# Altium integrated library con-deutsch_2.IntLib: 27 symbols (part 1 of 2)
Pins are listed as number, name and electrical type; pins without a type are passive.

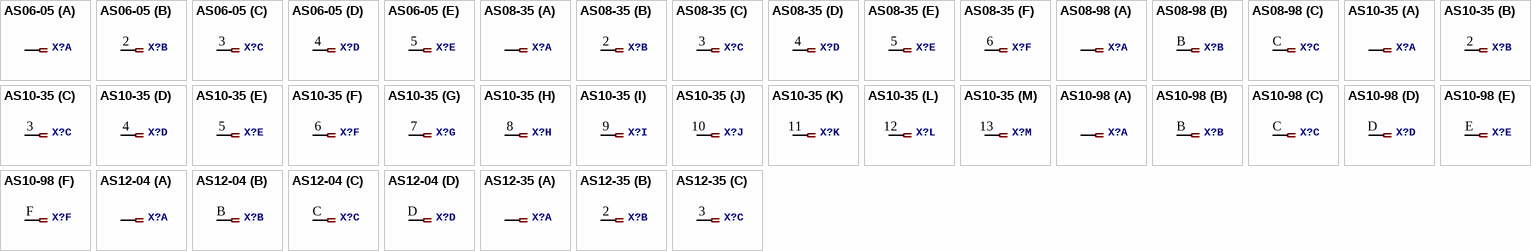
[diagram p0: symbols AS06-05 to AS12-35]

## AS06-05
designator X?, comment DEUTSCH Connector  (value not drawn)
GateName_1: /1; SymbolName_1: PINF_VAL; GateName_2: /2; SymbolName_2: ASPINF; GateName_3: /3; GateName_4: /4; GateName_5: /5; DeviceSetName: AS06-05; SymbolName_3: ASPINF; SymbolName_4: ASPINF; SymbolName_5: ASPINF; LibraryName: con-deutsch_2; Package: AS06-05
footprint AS06-05
part A pins: 1
part B pins: 2 1
part C pins: 3 1
part D pins: 4 1
part E pins: 5 1

## AS08-35
designator X?, comment DEUTSCH Connector  (value not drawn)
GateName_1: /1; SymbolName_1: PINF_VAL; GateName_2: /2; SymbolName_2: ASPINF; GateName_3: /3; GateName_4: /4; GateName_5: /5; GateName_6: /6; DeviceSetName: AS08-35; SymbolName_3: ASPINF; SymbolName_4: ASPINF; SymbolName_5: ASPINF; SymbolName_6: ASPINF; LibraryName: con-deutsch_2; Package: AS08-35
footprint AS08-35
part A pins: 1
part B pins: 2 1
part C pins: 3 1
part D pins: 4 1
part E pins: 5 1
part F pins: 6 1

## AS08-98
designator X?, comment DEUTSCH Connector  (value not drawn)
GateName_1: /A; SymbolName_1: PINF_VAL; GateName_2: /B; SymbolName_2: ASPINF; GateName_3: /C; DeviceSetName: AS08-98; SymbolName_3: ASPINF; LibraryName: con-deutsch_2; Package: AS08-98
footprint AS08-98
part A pins: A 1
part B pins: B 1
part C pins: C 1

## AS10-35
designator X?, comment DEUTSCH Connector  (value not drawn)
GateName_1: /1; SymbolName_1: PINF_VAL; GateName_2: /2; SymbolName_2: ASPINF; GateName_3: /3; GateName_4: /4; GateName_5: /5; GateName_6: /6; GateName_7: /7; GateName_8: /8; GateName_9: /9; GateName_10: /10; GateName_11: /11; GateName_12: /12; GateName_13: /13; DeviceSetName: AS10-35; SymbolName_3: ASPINF; SymbolName_4: ASPINF; SymbolName_5: ASPINF; SymbolName_6: ASPINF; SymbolName_7: ASPINF; SymbolName_8: ASPINF; SymbolName_9: ASPINF; SymbolName_10: ASPINF; SymbolName_11: ASPINF; SymbolName_12: ASPINF; SymbolName_13: ASPINF; LibraryName: con-deutsch_2; Package: AS10-35
footprint AS10-35
part A pins: 1
part B pins: 2 1
part C pins: 3 1
part D pins: 4 1
part E pins: 5 1
part F pins: 6 1
part G pins: 7 1
part H pins: 8 1
part I pins: 9 1
part J pins: 10 1
part K pins: 11 1
part L pins: 12 1
part M pins: 13 1

## AS10-98
designator X?, comment DEUTSCH Connector  (value not drawn)
GateName_1: /A; SymbolName_1: PINF_VAL; GateName_2: /B; SymbolName_2: ASPINF; GateName_3: /C; GateName_4: /D; GateName_5: /E; GateName_6: /F; DeviceSetName: AS10-98; SymbolName_3: ASPINF; SymbolName_4: ASPINF; SymbolName_5: ASPINF; SymbolName_6: ASPINF; LibraryName: con-deutsch_2; Package: AS10-98
footprint AS10-98
part A pins: A 1
part B pins: B 1
part C pins: C 1
part D pins: D 1
part E pins: E 1
part F pins: F 1

## AS12-04
designator X?, comment DEUTSCH Connector  (value not drawn)
GateName_1: /A; SymbolName_1: PINF_VAL; GateName_2: /B; SymbolName_2: ASPINF; GateName_3: /C; GateName_4: /D; DeviceSetName: AS12-04; SymbolName_3: ASPINF; SymbolName_4: ASPINF; LibraryName: con-deutsch_2; Package: AS12-04
footprint AS12-04
part A pins: A 1
part B pins: B 1
part C pins: C 1
part D pins: D 1

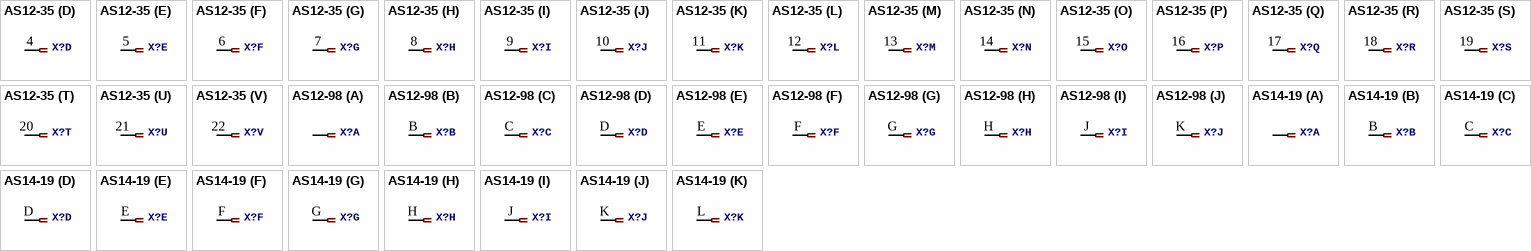
[diagram p1: symbols AS12-35 to AS14-19]

## AS12-35
designator X?, comment DEUTSCH Connector  (value not drawn)
GateName_1: /1; SymbolName_1: PINF_VAL; GateName_2: /2; SymbolName_2: ASPINF; GateName_3: /3; GateName_4: /4; GateName_5: /5; GateName_6: /6; GateName_7: /7; GateName_8: /8; GateName_9: /9; GateName_10: /10; GateName_11: /11; GateName_12: /12; GateName_13: /13; GateName_14: /14; GateName_15: /15; GateName_16: /16; GateName_17: /17; GateName_18: /18; GateName_19: /19; GateName_20: /20; GateName_21: /21; GateName_22: /22; DeviceSetName: AS12-35; SymbolName_3: ASPINF; SymbolName_4: ASPINF; SymbolName_5: ASPINF; SymbolName_6: ASPINF; SymbolName_7: ASPINF; SymbolName_8: ASPINF; SymbolName_9: ASPINF; SymbolName_10: ASPINF; SymbolName_11: ASPINF; SymbolName_12: ASPINF; SymbolName_13: ASPINF; SymbolName_14: ASPINF; SymbolName_15: ASPINF; SymbolName_16: ASPINF; SymbolName_17: ASPINF; SymbolName_18: ASPINF; SymbolName_19: ASPINF; SymbolName_20: ASPINF; SymbolName_21: ASPINF; SymbolName_22: ASPINF; LibraryName: con-deutsch_2; Package: AS12-35
footprint AS12-35
part A pins: 1
part B pins: 2 1
part C pins: 3 1
part D pins: 4 1
part E pins: 5 1
part F pins: 6 1
part G pins: 7 1
part H pins: 8 1
part I pins: 9 1
part J pins: 10 1
part K pins: 11 1
part L pins: 12 1
part M pins: 13 1
part N pins: 14 1
part O pins: 15 1
part P pins: 16 1
part Q pins: 17 1
part R pins: 18 1
part S pins: 19 1
part T pins: 20 1
part U pins: 21 1
part V pins: 22 1

## AS12-98
designator X?, comment DEUTSCH Connector  (value not drawn)
GateName_1: /A; SymbolName_1: PINF_VAL; GateName_2: /B; SymbolName_2: ASPINF; GateName_3: /C; GateName_4: /D; GateName_5: /E; GateName_6: /F; GateName_7: /G; GateName_8: /H; GateName_9: /J; GateName_10: /K; DeviceSetName: AS12-98; SymbolName_3: ASPINF; SymbolName_4: ASPINF; SymbolName_5: ASPINF; SymbolName_6: ASPINF; SymbolName_7: ASPINF; SymbolName_8: ASPINF; SymbolName_9: ASPINF; SymbolName_10: ASPINF; LibraryName: con-deutsch_2; Package: AS12-98
footprint AS12-98
part A pins: A 1
part B pins: B 1
part C pins: C 1
part D pins: D 1
part E pins: E 1
part F pins: F 1
part G pins: G 1
part H pins: H 1
part I pins: J 1
part J pins: K 1

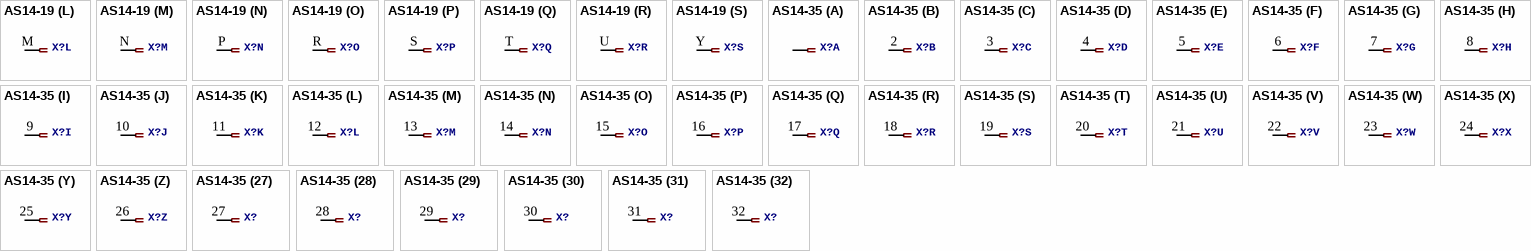
[diagram p2: symbols AS14-19 to AS14-35]

## AS14-19
designator X?, comment DEUTSCH Connector  (value not drawn)
GateName_1: /A; SymbolName_1: PINF_VAL; GateName_2: /B; SymbolName_2: ASPINF; GateName_3: /C; GateName_4: /D; GateName_5: /E; GateName_6: /F; GateName_7: /G; GateName_8: /H; GateName_9: /J; GateName_10: /K; GateName_11: /L; GateName_12: /M; GateName_13: /N; GateName_14: /P; GateName_15: /R; GateName_16: /S; GateName_17: /T; GateName_18: /U; GateName_19: /Y; DeviceSetName: AS14-19; SymbolName_3: ASPINF; SymbolName_4: ASPINF; SymbolName_5: ASPINF; SymbolName_6: ASPINF; SymbolName_7: ASPINF; SymbolName_8: ASPINF; SymbolName_9: ASPINF; SymbolName_10: ASPINF; SymbolName_11: ASPINF; SymbolName_12: ASPINF; SymbolName_13: ASPINF; SymbolName_14: ASPINF; SymbolName_15: ASPINF; SymbolName_16: ASPINF; SymbolName_17: ASPINF; SymbolName_18: ASPINF; SymbolName_19: ASPINF; LibraryName: con-deutsch_2; Package: AS14-19
footprint AS14-19
part A pins: A 1
part B pins: B 1
part C pins: C 1
part D pins: D 1
part E pins: E 1
part F pins: F 1
part G pins: G 1
part H pins: H 1
part I pins: J 1
part J pins: K 1
part K pins: L 1
part L pins: M 1
part M pins: N 1
part N pins: P 1
part O pins: R 1
part P pins: S 1
part Q pins: T 1
part R pins: U 1
part S pins: Y 1

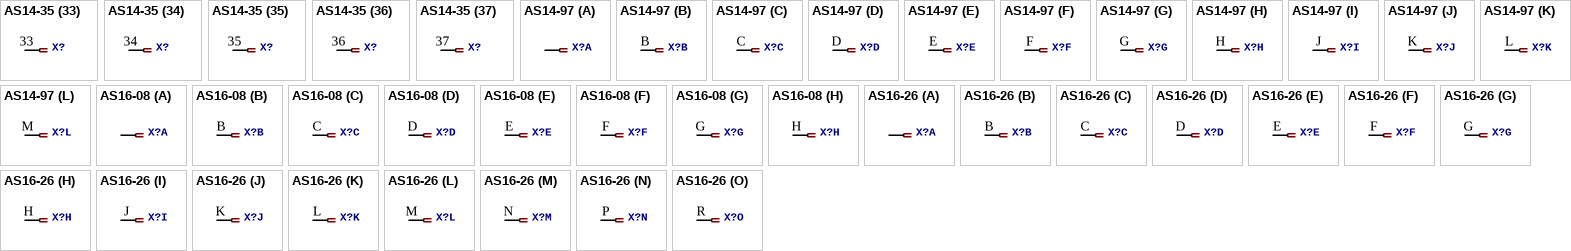
[diagram p3: symbols AS14-35 to AS16-26]

## AS14-35
designator X?, comment DEUTSCH Connector  (value not drawn)
GateName_1: /1; SymbolName_1: PINF_VAL; GateName_2: /2; SymbolName_2: ASPINF; GateName_3: /3; GateName_4: /4; GateName_5: /5; GateName_6: /6; GateName_7: /7; GateName_8: /8; GateName_9: /9; GateName_10: /10; GateName_11: /11; GateName_12: /12; GateName_13: /13; GateName_14: /14; GateName_15: /15; GateName_16: /16; GateName_17: /17; GateName_18: /18; GateName_19: /19; GateName_20: /20; GateName_21: /21; GateName_22: /22; GateName_23: /23; GateName_24: /24; GateName_25: /25; GateName_26: /26; GateName_27: /27; GateName_28: /28; GateName_29: /29; GateName_30: /30; GateName_31: /31; GateName_32: /32; GateName_33: /33; GateName_34: /34; GateName_35: /35; GateName_36: /36; GateName_37: /37; DeviceSetName: AS14-35; SymbolName_3: ASPINF; SymbolName_4: ASPINF; SymbolName_5: ASPINF; SymbolName_6: ASPINF; SymbolName_7: ASPINF; SymbolName_8: ASPINF; SymbolName_9: ASPINF; SymbolName_10: ASPINF; SymbolName_11: ASPINF; SymbolName_12: ASPINF; SymbolName_13: ASPINF; SymbolName_14: ASPINF; SymbolName_15: ASPINF; SymbolName_16: ASPINF; SymbolName_17: ASPINF; SymbolName_18: ASPINF; SymbolName_19: ASPINF; SymbolName_20: ASPINF; SymbolName_21: ASPINF; SymbolName_22: ASPINF; SymbolName_23: ASPINF; SymbolName_24: ASPINF; SymbolName_25: ASPINF; SymbolName_26: ASPINF; SymbolName_27: ASPINF; SymbolName_28: ASPINF; SymbolName_29: ASPINF; SymbolName_30: ASPINF; SymbolName_31: ASPINF; SymbolName_32: ASPINF; SymbolName_33: ASPINF; SymbolName_34: ASPINF; SymbolName_35: ASPINF; SymbolName_36: ASPINF; SymbolName_37: ASPINF; LibraryName: con-deutsch_2; Package: AS14-35
footprint AS14-35
part A pins: 1
part B pins: 2 1
part C pins: 3 1
part D pins: 4 1
part E pins: 5 1
part F pins: 6 1
part G pins: 7 1
part H pins: 8 1
part I pins: 9 1
part J pins: 10 1
part K pins: 11 1
part L pins: 12 1
part M pins: 13 1
part N pins: 14 1
part O pins: 15 1
part P pins: 16 1
part Q pins: 17 1
part R pins: 18 1
part S pins: 19 1
part T pins: 20 1
part U pins: 21 1
part V pins: 22 1
part W pins: 23 1
part X pins: 24 1
part Y pins: 25 1
part Z pins: 26 1
part 27 pins: 27 1
part 28 pins: 28 1
part 29 pins: 29 1
part 30 pins: 30 1
part 31 pins: 31 1
part 32 pins: 32 1
part 33 pins: 33 1
part 34 pins: 34 1
part 35 pins: 35 1
part 36 pins: 36 1
part 37 pins: 37 1

## AS14-97
designator X?, comment DEUTSCH Connector  (value not drawn)
GateName_1: /A; SymbolName_1: PINF_VAL; GateName_2: /B; SymbolName_2: ASPINF; GateName_3: /C; GateName_4: /D; GateName_5: /E; GateName_6: /F; GateName_7: /G; GateName_8: /H; GateName_9: /J; GateName_10: /K; GateName_11: /L; GateName_12: /M; DeviceSetName: AS14-97; SymbolName_3: ASPINF; SymbolName_4: ASPINF; SymbolName_5: ASPINF; SymbolName_6: ASPINF; SymbolName_7: ASPINF; SymbolName_8: ASPINF; SymbolName_9: ASPINF; SymbolName_10: ASPINF; SymbolName_11: ASPINF; SymbolName_12: ASPINF; LibraryName: con-deutsch_2; Package: AS14-97
footprint AS14-97
part A pins: A 1
part B pins: B 1
part C pins: C 1
part D pins: D 1
part E pins: E 1
part F pins: F 1
part G pins: G 1
part H pins: H 1
part I pins: J 1
part J pins: K 1
part K pins: L 1
part L pins: M 1

## AS16-08
designator X?, comment DEUTSCH Connector  (value not drawn)
GateName_1: /A; SymbolName_1: PINF_VAL; GateName_2: /B; SymbolName_2: ASPINF; GateName_3: /C; GateName_4: /D; GateName_5: /E; GateName_6: /F; GateName_7: /G; GateName_8: /H; DeviceSetName: AS16-08; SymbolName_3: ASPINF; SymbolName_4: ASPINF; SymbolName_5: ASPINF; SymbolName_6: ASPINF; SymbolName_7: ASPINF; SymbolName_8: ASPINF; LibraryName: con-deutsch_2; Package: AS16-08
footprint AS16-08
part A pins: A 1
part B pins: B 1
part C pins: C 1
part D pins: D 1
part E pins: E 1
part F pins: F 1
part G pins: G 1
part H pins: H 1

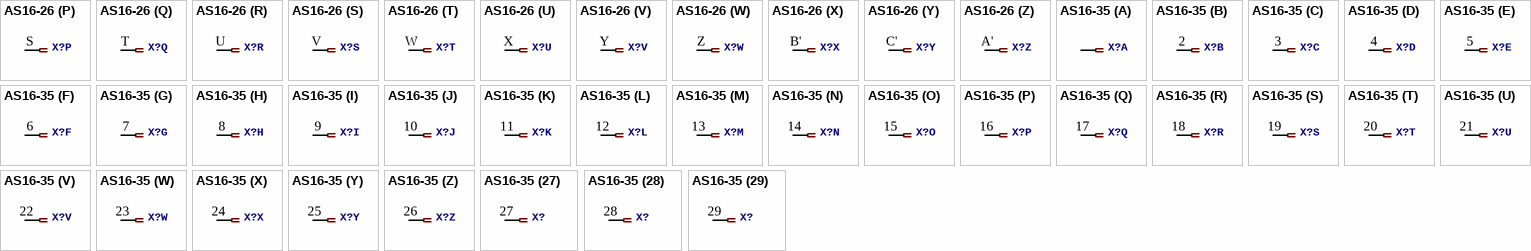
[diagram p4: symbols AS16-26 to AS16-35]

## AS16-26
designator X?, comment DEUTSCH Connector  (value not drawn)
GateName_1: /A; SymbolName_1: PINF_VAL; GateName_2: /B; SymbolName_2: ASPINF; GateName_3: /C; GateName_4: /D; GateName_5: /E; GateName_6: /F; GateName_7: /G; GateName_8: /H; GateName_9: /J; GateName_10: /K; GateName_11: /L; GateName_12: /M; GateName_13: /N; GateName_14: /P; GateName_15: /R; GateName_16: /S; GateName_17: /T; GateName_18: /U; GateName_19: /V; GateName_20: /W; GateName_21: /X; GateName_22: /Y; GateName_23: /Z; GateName_24: /B'; GateName_25: /C'; GateName_26: /A'; DeviceSetName: AS16-26; SymbolName_3: ASPINF; SymbolName_4: ASPINF; SymbolName_5: ASPINF; SymbolName_6: ASPINF; SymbolName_7: ASPINF; SymbolName_8: ASPINF; SymbolName_9: ASPINF; SymbolName_10: ASPINF; SymbolName_11: ASPINF; SymbolName_12: ASPINF; SymbolName_13: ASPINF; SymbolName_14: ASPINF; SymbolName_15: ASPINF; SymbolName_16: ASPINF; SymbolName_17: ASPINF; SymbolName_18: ASPINF; SymbolName_19: ASPINF; SymbolName_20: ASPINF; SymbolName_21: ASPINF; SymbolName_22: ASPINF; SymbolName_23: ASPINF; SymbolName_24: ASPINF; SymbolName_25: ASPINF; SymbolName_26: ASPINF; LibraryName: con-deutsch_2; Package: AS16-26
footprint AS16-26
part A pins: A 1
part B pins: B 1
part C pins: C 1
part D pins: D 1
part E pins: E 1
part F pins: F 1
part G pins: G 1
part H pins: H 1
part I pins: J 1
part J pins: K 1
part K pins: L 1
part L pins: M 1
part M pins: N 1
part N pins: P 1
part O pins: R 1
part P pins: S 1
part Q pins: T 1
part R pins: U 1
part S pins: V 1
part T pins: W 1
part U pins: X 1
part V pins: Y 1
part W pins: Z 1
part X pins: B' 1
part Y pins: C' 1
part Z pins: A' 1

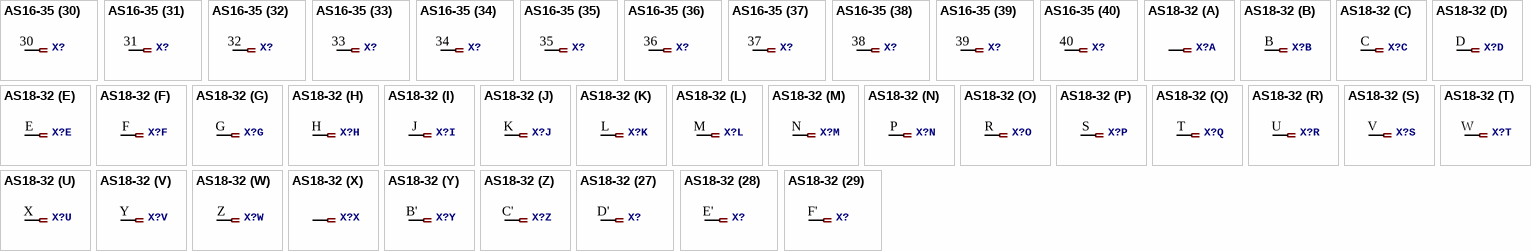
[diagram p5: symbols AS16-35 to AS18-32]

## AS16-35
designator X?, comment DEUTSCH Connector  (value not drawn)
GateName_1: /1; SymbolName_1: PINF_VAL; GateName_2: /2; SymbolName_2: ASPINF; GateName_3: /3; GateName_4: /4; GateName_5: /5; GateName_6: /6; GateName_7: /7; GateName_8: /8; GateName_9: /9; GateName_10: /10; GateName_11: /11; GateName_12: /12; GateName_13: /13; GateName_14: /14; GateName_15: /15; GateName_16: /16; GateName_17: /17; GateName_18: /18; GateName_19: /19; GateName_20: /20; GateName_21: /21; GateName_22: /22; GateName_23: /23; GateName_24: /24; GateName_25: /25; GateName_26: /26; GateName_27: /27; GateName_28: /28; GateName_29: /29; GateName_30: /30; GateName_31: /31; GateName_32: /32; GateName_33: /33; GateName_34: /34; GateName_35: /35; GateName_36: /36; GateName_37: /37; GateName_38: /38; GateName_39: /39; GateName_40: /40; GateName_41: /41; GateName_42: /42; GateName_43: /43; GateName_44: /44; GateName_45: /45; GateName_46: /46; GateName_47: /47; GateName_48: /48; GateName_49: /49; GateName_50: /50; GateName_51: /51; GateName_52: /52; GateName_53: /53; GateName_54: /54; GateName_55: /55; DeviceSetName: AS16-35; SymbolName_3: ASPINF; SymbolName_4: ASPINF; SymbolName_5: ASPINF; SymbolName_6: ASPINF; SymbolName_7: ASPINF; SymbolName_8: ASPINF; SymbolName_9: ASPINF; SymbolName_10: ASPINF; SymbolName_11: ASPINF; SymbolName_12: ASPINF; SymbolName_13: ASPINF; SymbolName_14: ASPINF; SymbolName_15: ASPINF; SymbolName_16: ASPINF; SymbolName_17: ASPINF; SymbolName_18: ASPINF; SymbolName_19: ASPINF; SymbolName_20: ASPINF; SymbolName_21: ASPINF; SymbolName_22: ASPINF; SymbolName_23: ASPINF; SymbolName_24: ASPINF; SymbolName_25: ASPINF; SymbolName_26: ASPINF; SymbolName_27: ASPINF; SymbolName_28: ASPINF; SymbolName_29: ASPINF; SymbolName_30: ASPINF; SymbolName_31: ASPINF; SymbolName_32: ASPINF; SymbolName_33: ASPINF; SymbolName_34: ASPINF; SymbolName_35: ASPINF; SymbolName_36: ASPINF; SymbolName_37: ASPINF; SymbolName_38: ASPINF; SymbolName_39: ASPINF; SymbolName_40: ASPINF; SymbolName_41: ASPINF; SymbolName_42: ASPINF; SymbolName_43: ASPINF; SymbolName_44: ASPINF; SymbolName_45: ASPINF; SymbolName_46: ASPINF; SymbolName_47: ASPINF; SymbolName_48: ASPINF; SymbolName_49: ASPINF; SymbolName_50: ASPINF; SymbolName_51: ASPINF; SymbolName_52: ASPINF; SymbolName_53: ASPINF; SymbolName_54: ASPINF; SymbolName_55: ASPINF; LibraryName: con-deutsch_2; Package: AS16-35
footprint AS16-35
part A pins: 1
part B pins: 2 1
part C pins: 3 1
part D pins: 4 1
part E pins: 5 1
part F pins: 6 1
part G pins: 7 1
part H pins: 8 1
part I pins: 9 1
part J pins: 10 1
part K pins: 11 1
part L pins: 12 1
part M pins: 13 1
part N pins: 14 1
part O pins: 15 1
part P pins: 16 1
part Q pins: 17 1
part R pins: 18 1
part S pins: 19 1
part T pins: 20 1
part U pins: 21 1
part V pins: 22 1
part W pins: 23 1
part X pins: 24 1
part Y pins: 25 1
part Z pins: 26 1
part 27 pins: 27 1
part 28 pins: 28 1
part 29 pins: 29 1
part 30 pins: 30 1
part 31 pins: 31 1
part 32 pins: 32 1
part 33 pins: 33 1
part 34 pins: 34 1
part 35 pins: 35 1
part 36 pins: 36 1
part 37 pins: 37 1
part 38 pins: 38 1
part 39 pins: 39 1
part 40 pins: 40 1
part 41 pins: 41 1
part 42 pins: 42 1
part 43 pins: 43 1
part 44 pins: 44 1
part 45 pins: 45 1
part 46 pins: 46 1
part 47 pins: 47 1
part 48 pins: 48 1
part 49 pins: 49 1
part 50 pins: 50 1
part 51 pins: 51 1
part 52 pins: 52 1
part 53 pins: 53 1
part 54 pins: 54 1
part 55 pins: 55 1

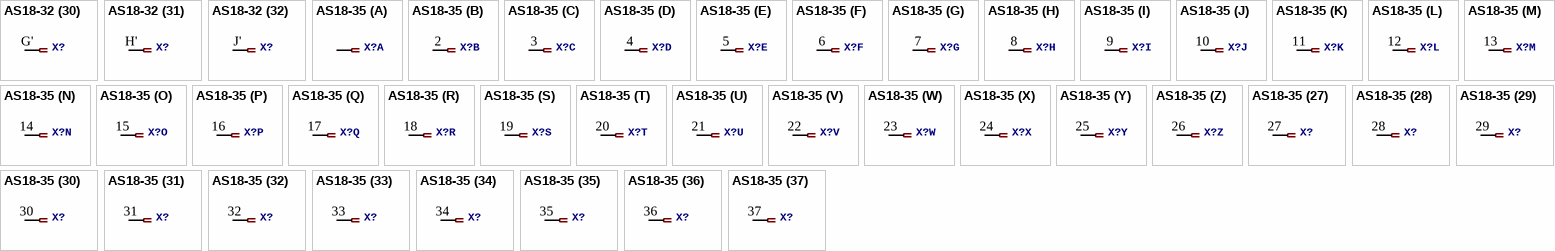
[diagram p6: symbols AS18-32 to AS18-35]

## AS18-32
designator X?, comment DEUTSCH Connector  (value not drawn)
GateName_1: /A; SymbolName_1: PINF_VAL; GateName_2: /B; SymbolName_2: ASPINF; GateName_3: /C; GateName_4: /D; GateName_5: /E; GateName_6: /F; GateName_7: /G; GateName_8: /H; GateName_9: /J; GateName_10: /K; GateName_11: /L; GateName_12: /M; GateName_13: /N; GateName_14: /P; GateName_15: /R; GateName_16: /S; GateName_17: /T; GateName_18: /U; GateName_19: /V; GateName_20: /W; GateName_21: /X; GateName_22: /Y; GateName_23: /Z; GateName_24: /A'; GateName_25: /B'; GateName_26: /C'; GateName_27: /D'; GateName_28: /E'; GateName_29: /F'; GateName_30: /G'; GateName_31: /H'; GateName_32: /J'; DeviceSetName: AS18-32; SymbolName_3: ASPINF; SymbolName_4: ASPINF; SymbolName_5: ASPINF; SymbolName_6: ASPINF; SymbolName_7: ASPINF; SymbolName_8: ASPINF; SymbolName_9: ASPINF; SymbolName_10: ASPINF; SymbolName_11: ASPINF; SymbolName_12: ASPINF; SymbolName_13: ASPINF; SymbolName_14: ASPINF; SymbolName_15: ASPINF; SymbolName_16: ASPINF; SymbolName_17: ASPINF; SymbolName_18: ASPINF; SymbolName_19: ASPINF; SymbolName_20: ASPINF; SymbolName_21: ASPINF; SymbolName_22: ASPINF; SymbolName_23: ASPINF; SymbolName_24: PINF_VAL; SymbolName_25: ASPINF; SymbolName_26: ASPINF; SymbolName_27: ASPINF; SymbolName_28: ASPINF; SymbolName_29: ASPINF; SymbolName_30: ASPINF; SymbolName_31: ASPINF; SymbolName_32: ASPINF; LibraryName: con-deutsch_2; Package: AS18-32
footprint AS18-32
part A pins: A 1
part B pins: B 1
part C pins: C 1
part D pins: D 1
part E pins: E 1
part F pins: F 1
part G pins: G 1
part H pins: H 1
part I pins: J 1
part J pins: K 1
part K pins: L 1
part L pins: M 1
part M pins: N 1
part N pins: P 1
part O pins: R 1
part P pins: S 1
part Q pins: T 1
part R pins: U 1
part S pins: V 1
part T pins: W 1
part U pins: X 1
part V pins: Y 1
part W pins: Z 1
part X pins: A' 1
part Y pins: B' 1
part Z pins: C' 1
part 27 pins: D' 1
part 28 pins: E' 1
part 29 pins: F' 1
part 30 pins: G' 1
part 31 pins: H' 1
part 32 pins: J' 1

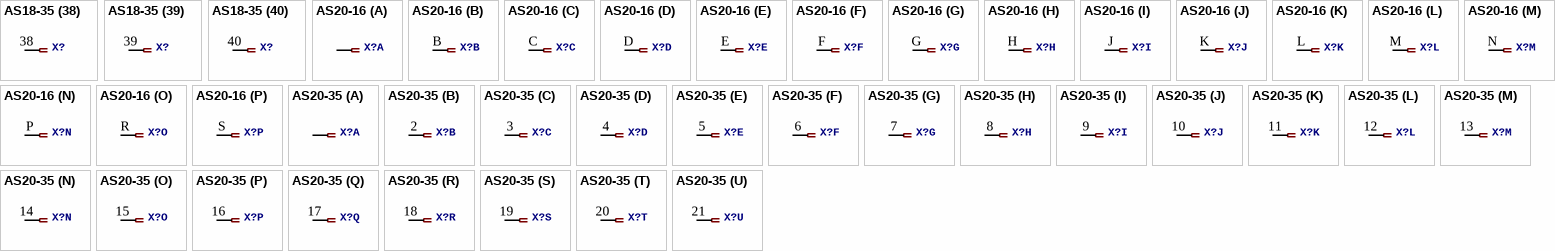
[diagram p7: symbols AS18-35 to AS20-35]

## AS18-35
designator X?, comment DEUTSCH Connector  (value not drawn)
GateName_1: /1; SymbolName_1: PINF_VAL; GateName_2: /2; SymbolName_2: ASPINF; GateName_3: /3; GateName_4: /4; GateName_5: /5; GateName_6: /6; GateName_7: /7; GateName_8: /8; GateName_9: /9; GateName_10: /10; GateName_11: /11; GateName_12: /12; GateName_13: /13; GateName_14: /14; GateName_15: /15; GateName_16: /16; GateName_17: /17; GateName_18: /18; GateName_19: /19; GateName_20: /20; GateName_21: /21; GateName_22: /22; GateName_23: /23; GateName_24: /24; GateName_25: /25; GateName_26: /26; GateName_27: /27; GateName_28: /28; GateName_29: /29; GateName_30: /30; GateName_31: /31; GateName_32: /32; GateName_33: /33; GateName_34: /34; GateName_35: /35; GateName_36: /36; GateName_37: /37; GateName_38: /38; GateName_39: /39; GateName_40: /40; GateName_41: /41; GateName_42: /42; GateName_43: /43; GateName_44: /44; GateName_45: /45; GateName_46: /46; GateName_47: /47; GateName_48: /48; GateName_49: /49; GateName_50: /50; GateName_51: /51; GateName_52: /52; GateName_53: /53; GateName_54: /54; GateName_55: /55; GateName_56: /56; GateName_57: /57; GateName_58: /58; GateName_59: /59; GateName_60: /60; GateName_61: /61; GateName_62: /62; GateName_63: /63; GateName_64: /64; GateName_65: /65; GateName_66: /66; DeviceSetName: AS18-35; SymbolName_3: ASPINF; SymbolName_4: ASPINF; SymbolName_5: ASPINF; SymbolName_6: ASPINF; SymbolName_7: ASPINF; SymbolName_8: ASPINF; SymbolName_9: ASPINF; SymbolName_10: ASPINF; SymbolName_11: ASPINF; SymbolName_12: ASPINF; SymbolName_13: ASPINF; SymbolName_14: ASPINF; SymbolName_15: ASPINF; SymbolName_16: ASPINF; SymbolName_17: ASPINF; SymbolName_18: ASPINF; SymbolName_19: ASPINF; SymbolName_20: ASPINF; SymbolName_21: ASPINF; SymbolName_22: ASPINF; SymbolName_23: ASPINF; SymbolName_24: ASPINF; SymbolName_25: ASPINF; SymbolName_26: ASPINF; SymbolName_27: ASPINF; SymbolName_28: ASPINF; SymbolName_29: ASPINF; SymbolName_30: ASPINF; SymbolName_31: ASPINF; SymbolName_32: ASPINF; SymbolName_33: ASPINF; SymbolName_34: ASPINF; SymbolName_35: ASPINF; SymbolName_36: ASPINF; SymbolName_37: ASPINF; SymbolName_38: ASPINF; SymbolName_39: ASPINF; SymbolName_40: ASPINF; SymbolName_41: ASPINF; SymbolName_42: ASPINF; SymbolName_43: ASPINF; SymbolName_44: ASPINF; SymbolName_45: ASPINF; SymbolName_46: ASPINF; SymbolName_47: ASPINF; SymbolName_48: ASPINF; SymbolName_49: ASPINF; SymbolName_50: ASPINF; SymbolName_51: ASPINF; SymbolName_52: ASPINF; SymbolName_53: ASPINF; SymbolName_54: ASPINF; SymbolName_55: ASPINF; SymbolName_56: ASPINF; SymbolName_57: ASPINF; SymbolName_58: ASPINF; SymbolName_59: ASPINF; SymbolName_60: ASPINF; SymbolName_61: ASPINF; SymbolName_62: ASPINF; SymbolName_63: ASPINF; SymbolName_64: ASPINF; SymbolName_65: ASPINF; SymbolName_66: ASPINF; LibraryName: con-deutsch_2; Package: AS18-35
footprint AS18-35
part A pins: 1
part B pins: 2 1
part C pins: 3 1
part D pins: 4 1
part E pins: 5 1
part F pins: 6 1
part G pins: 7 1
part H pins: 8 1
part I pins: 9 1
part J pins: 10 1
part K pins: 11 1
part L pins: 12 1
part M pins: 13 1
part N pins: 14 1
part O pins: 15 1
part P pins: 16 1
part Q pins: 17 1
part R pins: 18 1
part S pins: 19 1
part T pins: 20 1
part U pins: 21 1
part V pins: 22 1
part W pins: 23 1
part X pins: 24 1
part Y pins: 25 1
part Z pins: 26 1
part 27 pins: 27 1
part 28 pins: 28 1
part 29 pins: 29 1
part 30 pins: 30 1
part 31 pins: 31 1
part 32 pins: 32 1
part 33 pins: 33 1
part 34 pins: 34 1
part 35 pins: 35 1
part 36 pins: 36 1
part 37 pins: 37 1
part 38 pins: 38 1
part 39 pins: 39 1
part 40 pins: 40 1
part 41 pins: 41 1
part 42 pins: 42 1
part 43 pins: 43 1
part 44 pins: 44 1
part 45 pins: 45 1
part 46 pins: 46 1
part 47 pins: 47 1
part 48 pins: 48 1
part 49 pins: 49 1
part 50 pins: 50 1
part 51 pins: 51 1
part 52 pins: 52 1
part 53 pins: 53 1
part 54 pins: 54 1
part 55 pins: 55 1
part 56 pins: 56 1
part 57 pins: 57 1
part 58 pins: 58 1
part 59 pins: 59 1
part 60 pins: 60 1
part 61 pins: 61 1
part 62 pins: 62 1
part 63 pins: 63 1
part 64 pins: 64 1
part 65 pins: 65 1
part 66 pins: 66 1

## AS20-16
designator X?, comment DEUTSCH Connector  (value not drawn)
GateName_1: /A; SymbolName_1: PINF_VAL; GateName_2: /B; SymbolName_2: ASPINF; GateName_3: /C; GateName_4: /D; GateName_5: /E; GateName_6: /F; GateName_7: /G; GateName_8: /H; GateName_9: /J; GateName_10: /K; GateName_11: /L; GateName_12: /M; GateName_13: /N; GateName_14: /P; GateName_15: /R; GateName_16: /S; DeviceSetName: AS20-16; SymbolName_3: ASPINF; SymbolName_4: ASPINF; SymbolName_5: ASPINF; SymbolName_6: ASPINF; SymbolName_7: ASPINF; SymbolName_8: ASPINF; SymbolName_9: ASPINF; SymbolName_10: ASPINF; SymbolName_11: ASPINF; SymbolName_12: ASPINF; SymbolName_13: ASPINF; SymbolName_14: ASPINF; SymbolName_15: ASPINF; SymbolName_16: ASPINF; LibraryName: con-deutsch_2; Package: AS20-16
footprint AS20-16
part A pins: A 1
part B pins: B 1
part C pins: C 1
part D pins: D 1
part E pins: E 1
part F pins: F 1
part G pins: G 1
part H pins: H 1
part I pins: J 1
part J pins: K 1
part K pins: L 1
part L pins: M 1
part M pins: N 1
part N pins: P 1
part O pins: R 1
part P pins: S 1

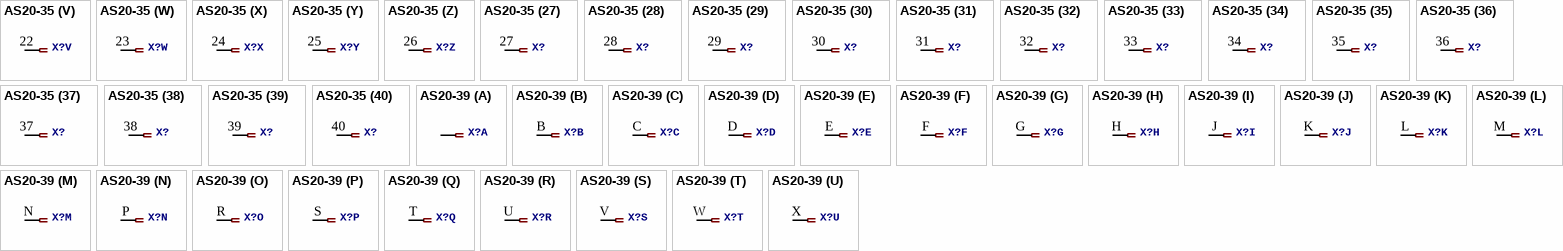
[diagram p8: symbols AS20-35 to AS20-39]

## AS20-35
designator X?, comment DEUTSCH Connector  (value not drawn)
GateName_1: /1; SymbolName_1: PINF_VAL; GateName_2: /2; SymbolName_2: ASPINF; GateName_3: /3; GateName_4: /4; GateName_5: /5; GateName_6: /6; GateName_7: /7; GateName_8: /8; GateName_9: /9; GateName_10: /10; GateName_11: /11; GateName_12: /12; GateName_13: /13; GateName_14: /14; GateName_15: /15; GateName_16: /16; GateName_17: /17; GateName_18: /18; GateName_19: /19; GateName_20: /20; GateName_21: /21; GateName_22: /22; GateName_23: /23; GateName_24: /24; GateName_25: /25; GateName_26: /26; GateName_27: /27; GateName_28: /28; GateName_29: /29; GateName_30: /30; GateName_31: /31; GateName_32: /32; GateName_33: /33; GateName_34: /34; GateName_35: /35; GateName_36: /36; GateName_37: /37; GateName_38: /38; GateName_39: /39; GateName_40: /40; GateName_41: /41; GateName_42: /42; GateName_43: /43; GateName_44: /44; GateName_45: /45; GateName_46: /46; GateName_47: /47; GateName_48: /48; GateName_49: /49; GateName_50: /50; GateName_51: /51; GateName_52: /52; GateName_53: /53; GateName_54: /54; GateName_55: /55; GateName_56: /56; GateName_57: /57; GateName_58: /58; GateName_59: /59; GateName_60: /60; GateName_61: /61; GateName_62: /62; GateName_63: /63; GateName_64: /64; GateName_65: /65; GateName_66: /66; GateName_67: /67; GateName_68: /68; GateName_69: /69; GateName_70: /70; GateName_71: /71; GateName_72: /72; GateName_73: /73; GateName_74: /74; GateName_75: /75; GateName_76: /76; GateName_77: /77; GateName_78: /78; GateName_79: /79; DeviceSetName: AS20-35; SymbolName_3: ASPINF; SymbolName_4: ASPINF; SymbolName_5: ASPINF; SymbolName_6: ASPINF; SymbolName_7: ASPINF; SymbolName_8: ASPINF; SymbolName_9: ASPINF; SymbolName_10: ASPINF; SymbolName_11: ASPINF; SymbolName_12: ASPINF; SymbolName_13: ASPINF; SymbolName_14: ASPINF; SymbolName_15: ASPINF; SymbolName_16: ASPINF; SymbolName_17: ASPINF; SymbolName_18: ASPINF; SymbolName_19: ASPINF; SymbolName_20: ASPINF; SymbolName_21: ASPINF; SymbolName_22: ASPINF; SymbolName_23: ASPINF; SymbolName_24: ASPINF; SymbolName_25: ASPINF; SymbolName_26: ASPINF; SymbolName_27: ASPINF; SymbolName_28: ASPINF; SymbolName_29: ASPINF; SymbolName_30: ASPINF; SymbolName_31: ASPINF; SymbolName_32: ASPINF; SymbolName_33: ASPINF; SymbolName_34: ASPINF; SymbolName_35: ASPINF; SymbolName_36: ASPINF; SymbolName_37: ASPINF; SymbolName_38: ASPINF; SymbolName_39: ASPINF; SymbolName_40: ASPINF; SymbolName_41: ASPINF; SymbolName_42: ASPINF; SymbolName_43: ASPINF; SymbolName_44: ASPINF; SymbolName_45: ASPINF; SymbolName_46: ASPINF; SymbolName_47: ASPINF; SymbolName_48: ASPINF; SymbolName_49: ASPINF; SymbolName_50: ASPINF; SymbolName_51: ASPINF; SymbolName_52: ASPINF; SymbolName_53: ASPINF; SymbolName_54: ASPINF; SymbolName_55: ASPINF; SymbolName_56: ASPINF; SymbolName_57: ASPINF; SymbolName_58: ASPINF; SymbolName_59: ASPINF; SymbolName_60: ASPINF; SymbolName_61: ASPINF; SymbolName_62: ASPINF; SymbolName_63: ASPINF; SymbolName_64: ASPINF; SymbolName_65: ASPINF; SymbolName_66: ASPINF; SymbolName_67: ASPINF; SymbolName_68: ASPINF; SymbolName_69: ASPINF; SymbolName_70: ASPINF; SymbolName_71: ASPINF; SymbolName_72: ASPINF; SymbolName_73: ASPINF; SymbolName_74: ASPINF; SymbolName_75: ASPINF; SymbolName_76: ASPINF; SymbolName_77: ASPINF; SymbolName_78: ASPINF; SymbolName_79: ASPINF; LibraryName: con-deutsch_2; Package: AS20-35
footprint AS20-35
part A pins: 1
part B pins: 2 1
part C pins: 3 1
part D pins: 4 1
part E pins: 5 1
part F pins: 6 1
part G pins: 7 1
part H pins: 8 1
part I pins: 9 1
part J pins: 10 1
part K pins: 11 1
part L pins: 12 1
part M pins: 13 1
part N pins: 14 1
part O pins: 15 1
part P pins: 16 1
part Q pins: 17 1
part R pins: 18 1
part S pins: 19 1
part T pins: 20 1
part U pins: 21 1
part V pins: 22 1
part W pins: 23 1
part X pins: 24 1
part Y pins: 25 1
part Z pins: 26 1
part 27 pins: 27 1
part 28 pins: 28 1
part 29 pins: 29 1
part 30 pins: 30 1
part 31 pins: 31 1
part 32 pins: 32 1
part 33 pins: 33 1
part 34 pins: 34 1
part 35 pins: 35 1
part 36 pins: 36 1
part 37 pins: 37 1
part 38 pins: 38 1
part 39 pins: 39 1
part 40 pins: 40 1
part 41 pins: 41 1
part 42 pins: 42 1
part 43 pins: 43 1
part 44 pins: 44 1
part 45 pins: 45 1
part 46 pins: 46 1
part 47 pins: 47 1
part 48 pins: 48 1
part 49 pins: 49 1
part 50 pins: 50 1
part 51 pins: 51 1
part 52 pins: 52 1
part 53 pins: 53 1
part 54 pins: 54 1
part 55 pins: 55 1
part 56 pins: 56 1
part 57 pins: 57 1
part 58 pins: 58 1
part 59 pins: 59 1
part 60 pins: 60 1
part 61 pins: 61 1
part 62 pins: 62 1
part 63 pins: 63 1
part 64 pins: 64 1
part 65 pins: 65 1
part 66 pins: 66 1
part 67 pins: 67 1
part 68 pins: 68 1
part 69 pins: 69 1
part 70 pins: 70 1
part 71 pins: 71 1
part 72 pins: 72 1
part 73 pins: 73 1
part 74 pins: 74 1
part 75 pins: 75 1
part 76 pins: 76 1
part 77 pins: 77 1
part 78 pins: 78 1
part 79 pins: 79 1

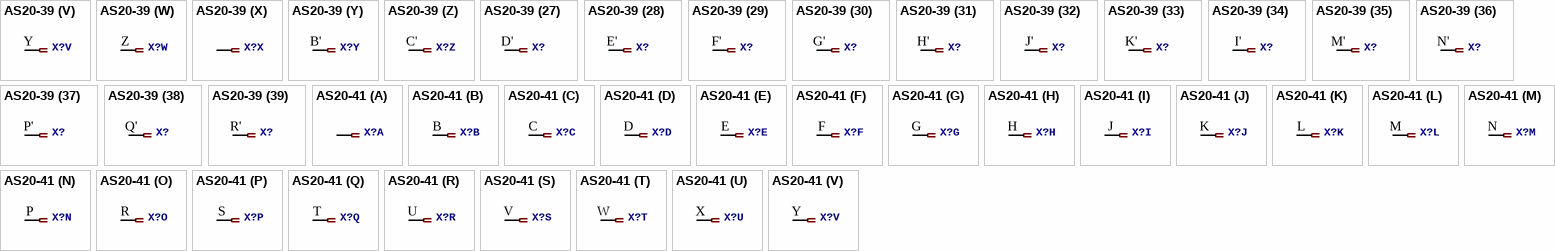
[diagram p9: symbols AS20-39 to AS20-41]

## AS20-39
designator X?, comment DEUTSCH Connector  (value not drawn)
GateName_1: /A; SymbolName_1: PINF_VAL; GateName_2: /B; SymbolName_2: ASPINF; GateName_3: /C; GateName_4: /D; GateName_5: /E; GateName_6: /F; GateName_7: /G; GateName_8: /H; GateName_9: /J; GateName_10: /K; GateName_11: /L; GateName_12: /M; GateName_13: /N; GateName_14: /P; GateName_15: /R; GateName_16: /S; GateName_17: /T; GateName_18: /U; GateName_19: /V; GateName_20: /W; GateName_21: /X; GateName_22: /Y; GateName_23: /Z; GateName_24: /A'; GateName_25: /B'; GateName_26: /C'; GateName_27: /D'; GateName_28: /E'; GateName_29: /F'; GateName_30: /G'; GateName_31: /H'; GateName_32: /J'; GateName_33: /K'; GateName_34: /I'; GateName_35: /M'; GateName_36: /N'; GateName_37: /P'; GateName_38: /Q'; GateName_39: /R'; DeviceSetName: AS20-39; SymbolName_3: ASPINF; SymbolName_4: ASPINF; SymbolName_5: ASPINF; SymbolName_6: ASPINF; SymbolName_7: ASPINF; SymbolName_8: ASPINF; SymbolName_9: ASPINF; SymbolName_10: ASPINF; SymbolName_11: ASPINF; SymbolName_12: ASPINF; SymbolName_13: ASPINF; SymbolName_14: ASPINF; SymbolName_15: ASPINF; SymbolName_16: ASPINF; SymbolName_17: ASPINF; SymbolName_18: ASPINF; SymbolName_19: ASPINF; SymbolName_20: ASPINF; SymbolName_21: ASPINF; SymbolName_22: ASPINF; SymbolName_23: ASPINF; SymbolName_24: PINF_VAL; SymbolName_25: ASPINF; SymbolName_26: ASPINF; SymbolName_27: ASPINF; SymbolName_28: ASPINF; SymbolName_29: ASPINF; SymbolName_30: ASPINF; SymbolName_31: ASPINF; SymbolName_32: ASPINF; SymbolName_33: ASPINF; SymbolName_34: ASPINF; SymbolName_35: ASPINF; SymbolName_36: ASPINF; SymbolName_37: ASPINF; SymbolName_38: ASPINF; SymbolName_39: ASPINF; LibraryName: con-deutsch_2; Package: AS20-39
footprint AS20-39
part A pins: A 1
part B pins: B 1
part C pins: C 1
part D pins: D 1
part E pins: E 1
part F pins: F 1
part G pins: G 1
part H pins: H 1
part I pins: J 1
part J pins: K 1
part K pins: L 1
part L pins: M 1
part M pins: N 1
part N pins: P 1
part O pins: R 1
part P pins: S 1
part Q pins: T 1
part R pins: U 1
part S pins: V 1
part T pins: W 1
part U pins: X 1
part V pins: Y 1
part W pins: Z 1
part X pins: A' 1
part Y pins: B' 1
part Z pins: C' 1
part 27 pins: D' 1
part 28 pins: E' 1
part 29 pins: F' 1
part 30 pins: G' 1
part 31 pins: H' 1
part 32 pins: J' 1
part 33 pins: K' 1
part 34 pins: I' 1
part 35 pins: M' 1
part 36 pins: N' 1
part 37 pins: P' 1
part 38 pins: Q' 1
part 39 pins: R' 1

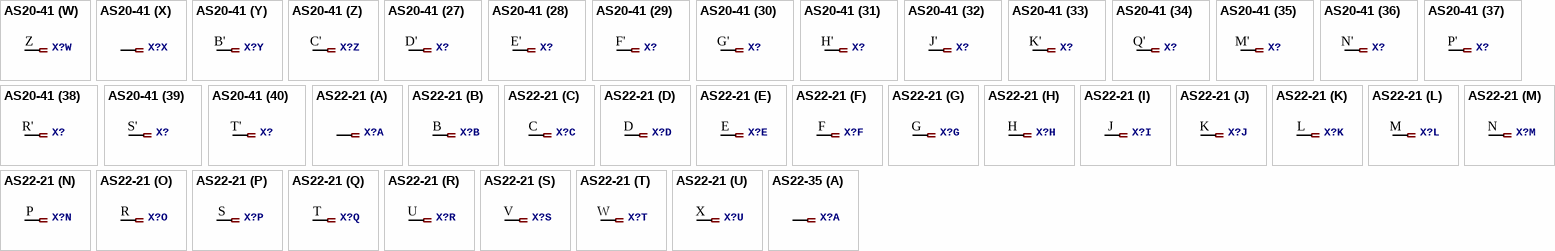
[diagram p10: symbols AS20-41 to AS22-35]

## AS20-41
designator X?, comment DEUTSCH Connector  (value not drawn)
GateName_1: /A; SymbolName_1: PINF_VAL; GateName_2: /B; SymbolName_2: ASPINF; GateName_3: /C; GateName_4: /D; GateName_5: /E; GateName_6: /F; GateName_7: /G; GateName_8: /H; GateName_9: /J; GateName_10: /K; GateName_11: /L; GateName_12: /M; GateName_13: /N; GateName_14: /P; GateName_15: /R; GateName_16: /S; GateName_17: /T; GateName_18: /U; GateName_19: /V; GateName_20: /W; GateName_21: /X; GateName_22: /Y; GateName_23: /Z; GateName_24: /A'; GateName_25: /B'; GateName_26: /C'; GateName_27: /D'; GateName_28: /E'; GateName_29: /F'; GateName_30: /G'; GateName_31: /H'; GateName_32: /J'; GateName_33: /K'; GateName_34: /Q'; GateName_35: /M'; GateName_36: /N'; GateName_37: /P'; GateName_38: /R'; GateName_39: /S'; GateName_40: /T'; GateName_41: /I'; DeviceSetName: AS20-41; SymbolName_3: ASPINF; SymbolName_4: ASPINF; SymbolName_5: ASPINF; SymbolName_6: ASPINF; SymbolName_7: ASPINF; SymbolName_8: ASPINF; SymbolName_9: ASPINF; SymbolName_10: ASPINF; SymbolName_11: ASPINF; SymbolName_12: ASPINF; SymbolName_13: ASPINF; SymbolName_14: ASPINF; SymbolName_15: ASPINF; SymbolName_16: ASPINF; SymbolName_17: ASPINF; SymbolName_18: ASPINF; SymbolName_19: ASPINF; SymbolName_20: ASPINF; SymbolName_21: ASPINF; SymbolName_22: ASPINF; SymbolName_23: ASPINF; SymbolName_24: PINF_VAL; SymbolName_25: ASPINF; SymbolName_26: ASPINF; SymbolName_27: ASPINF; SymbolName_28: ASPINF; SymbolName_29: ASPINF; SymbolName_30: ASPINF; SymbolName_31: ASPINF; SymbolName_32: ASPINF; SymbolName_33: ASPINF; SymbolName_34: ASPINF; SymbolName_35: ASPINF; SymbolName_36: ASPINF; SymbolName_37: ASPINF; SymbolName_38: ASPINF; SymbolName_39: ASPINF; SymbolName_40: ASPINF; SymbolName_41: ASPINF; LibraryName: con-deutsch_2; Package: AS20-41
footprint AS20-41
part A pins: A 1
part B pins: B 1
part C pins: C 1
part D pins: D 1
part E pins: E 1
part F pins: F 1
part G pins: G 1
part H pins: H 1
part I pins: J 1
part J pins: K 1
part K pins: L 1
part L pins: M 1
part M pins: N 1
part N pins: P 1
part O pins: R 1
part P pins: S 1
part Q pins: T 1
part R pins: U 1
part S pins: V 1
part T pins: W 1
part U pins: X 1
part V pins: Y 1
part W pins: Z 1
part X pins: A' 1
part Y pins: B' 1
part Z pins: C' 1
part 27 pins: D' 1
part 28 pins: E' 1
part 29 pins: F' 1
part 30 pins: G' 1
part 31 pins: H' 1
part 32 pins: J' 1
part 33 pins: K' 1
part 34 pins: Q' 1
part 35 pins: M' 1
part 36 pins: N' 1
part 37 pins: P' 1
part 38 pins: R' 1
part 39 pins: S' 1
part 40 pins: T' 1
part 41 pins: I' 1

## AS22-21
designator X?, comment DEUTSCH Connector  (value not drawn)
GateName_1: /A; SymbolName_1: PINF_VAL; GateName_2: /B; SymbolName_2: ASPINF; GateName_3: /C; GateName_4: /D; GateName_5: /E; GateName_6: /F; GateName_7: /G; GateName_8: /H; GateName_9: /J; GateName_10: /K; GateName_11: /L; GateName_12: /M; GateName_13: /N; GateName_14: /P; GateName_15: /R; GateName_16: /S; GateName_17: /T; GateName_18: /U; GateName_19: /V; GateName_20: /W; GateName_21: /X; DeviceSetName: AS22-21; SymbolName_3: ASPINF; SymbolName_4: ASPINF; SymbolName_5: ASPINF; SymbolName_6: ASPINF; SymbolName_7: ASPINF; SymbolName_8: ASPINF; SymbolName_9: ASPINF; SymbolName_10: ASPINF; SymbolName_11: ASPINF; SymbolName_12: ASPINF; SymbolName_13: ASPINF; SymbolName_14: ASPINF; SymbolName_15: ASPINF; SymbolName_16: ASPINF; SymbolName_17: ASPINF; SymbolName_18: ASPINF; SymbolName_19: ASPINF; SymbolName_20: ASPINF; SymbolName_21: ASPINF; LibraryName: con-deutsch_2; Package: AS22-21
footprint AS22-21
part A pins: A 1
part B pins: B 1
part C pins: C 1
part D pins: D 1
part E pins: E 1
part F pins: F 1
part G pins: G 1
part H pins: H 1
part I pins: J 1
part J pins: K 1
part K pins: L 1
part L pins: M 1
part M pins: N 1
part N pins: P 1
part O pins: R 1
part P pins: S 1
part Q pins: T 1
part R pins: U 1
part S pins: V 1
part T pins: W 1
part U pins: X 1

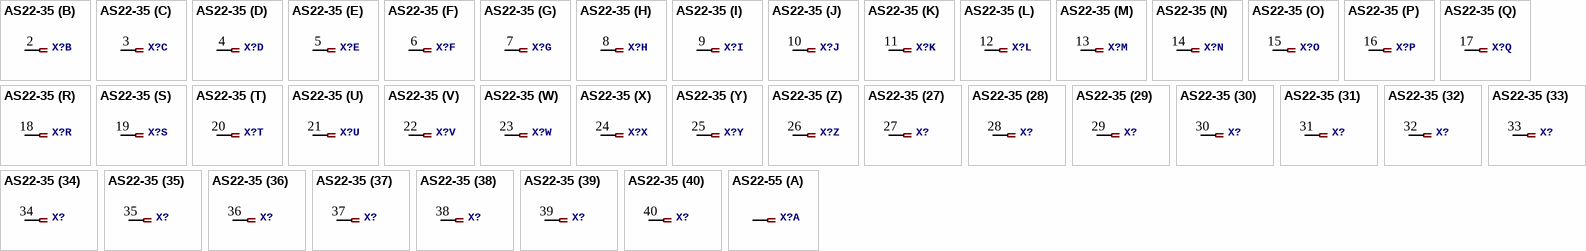
[diagram p11: symbols AS22-35 to AS22-55]

## AS22-35
designator X?, comment DEUTSCH Connector  (value not drawn)
GateName_1: /1; SymbolName_1: PINF_VAL; GateName_2: /2; SymbolName_2: ASPINF; GateName_3: /3; GateName_4: /4; GateName_5: /5; GateName_6: /6; GateName_7: /7; GateName_8: /8; GateName_9: /9; GateName_10: /10; GateName_11: /11; GateName_12: /12; GateName_13: /13; GateName_14: /14; GateName_15: /15; GateName_16: /16; GateName_17: /17; GateName_18: /18; GateName_19: /19; GateName_20: /20; GateName_21: /21; GateName_22: /22; GateName_23: /23; GateName_24: /24; GateName_25: /25; GateName_26: /26; GateName_27: /27; GateName_28: /28; GateName_29: /29; GateName_30: /30; GateName_31: /31; GateName_32: /32; GateName_33: /33; GateName_34: /34; GateName_35: /35; GateName_36: /36; GateName_37: /37; GateName_38: /38; GateName_39: /39; GateName_40: /40; GateName_41: /41; GateName_42: /42; GateName_43: /43; GateName_44: /44; GateName_45: /45; GateName_46: /46; GateName_47: /47; GateName_48: /48; GateName_49: /49; GateName_50: /50; GateName_51: /51; GateName_52: /52; GateName_53: /53; GateName_54: /54; GateName_55: /55; GateName_56: /56; GateName_57: /57; GateName_58: /58; GateName_59: /59; GateName_60: /60; GateName_61: /61; GateName_62: /62; GateName_63: /63; GateName_64: /64; GateName_65: /65; GateName_66: /66; GateName_67: /67; GateName_68: /68; GateName_69: /69; GateName_70: /70; GateName_71: /71; GateName_72: /72; GateName_73: /73; GateName_74: /74; GateName_75: /75; GateName_76: /76; GateName_77: /77; GateName_78: /78; GateName_79: /79; GateName_80: /80; GateName_81: /81; GateName_82: /82; GateName_83: /83; GateName_84: /84; GateName_85: /85; GateName_86: /86; GateName_87: /87; GateName_88: /88; GateName_89: /89; GateName_90: /90; GateName_91: /91; GateName_92: /92; GateName_93: /93; GateName_94: /94; GateName_95: /95; GateName_96: /96; GateName_97: /97; GateName_98: /98; GateName_99: /99; GateName_100: /100; DeviceSetName: AS22-35; SymbolName_3: ASPINF; SymbolName_4: ASPINF; SymbolName_5: ASPINF; SymbolName_6: ASPINF; SymbolName_7: ASPINF; SymbolName_8: ASPINF; SymbolName_9: ASPINF; SymbolName_10: ASPINF; SymbolName_11: ASPINF; SymbolName_12: ASPINF; SymbolName_13: ASPINF; SymbolName_14: ASPINF; SymbolName_15: ASPINF; SymbolName_16: ASPINF; SymbolName_17: ASPINF; SymbolName_18: ASPINF; SymbolName_19: ASPINF; SymbolName_20: ASPINF; SymbolName_21: ASPINF; SymbolName_22: ASPINF; SymbolName_23: ASPINF; SymbolName_24: ASPINF; SymbolName_25: ASPINF; SymbolName_26: ASPINF; SymbolName_27: ASPINF; SymbolName_28: ASPINF; SymbolName_29: ASPINF; SymbolName_30: ASPINF; SymbolName_31: ASPINF; SymbolName_32: ASPINF; SymbolName_33: ASPINF; SymbolName_34: ASPINF; SymbolName_35: ASPINF; SymbolName_36: ASPINF; SymbolName_37: ASPINF; SymbolName_38: ASPINF; SymbolName_39: ASPINF; SymbolName_40: ASPINF; SymbolName_41: ASPINF; SymbolName_42: ASPINF; SymbolName_43: ASPINF; SymbolName_44: ASPINF; SymbolName_45: ASPINF; SymbolName_46: ASPINF; SymbolName_47: ASPINF; SymbolName_48: ASPINF; SymbolName_49: ASPINF; SymbolName_50: ASPINF; SymbolName_51: ASPINF; SymbolName_52: ASPINF; SymbolName_53: ASPINF; SymbolName_54: ASPINF; SymbolName_55: ASPINF; SymbolName_56: ASPINF; SymbolName_57: ASPINF; SymbolName_58: ASPINF; SymbolName_59: ASPINF; SymbolName_60: ASPINF; SymbolName_61: ASPINF; SymbolName_62: ASPINF; SymbolName_63: ASPINF; SymbolName_64: ASPINF; SymbolName_65: ASPINF; SymbolName_66: ASPINF; SymbolName_67: ASPINF; SymbolName_68: ASPINF; SymbolName_69: ASPINF; SymbolName_70: ASPINF; SymbolName_71: ASPINF; SymbolName_72: ASPINF; SymbolName_73: ASPINF; SymbolName_74: ASPINF; SymbolName_75: ASPINF; SymbolName_76: ASPINF; SymbolName_77: ASPINF; SymbolName_78: ASPINF; SymbolName_79: ASPINF; SymbolName_80: ASPINF; SymbolName_81: ASPINF; SymbolName_82: ASPINF; SymbolName_83: ASPINF; SymbolName_84: ASPINF; SymbolName_85: ASPINF; SymbolName_86: ASPINF; SymbolName_87: ASPINF; SymbolName_88: ASPINF; SymbolName_89: ASPINF; SymbolName_90: ASPINF; SymbolName_91: ASPINF; SymbolName_92: ASPINF; SymbolName_93: ASPINF; SymbolName_94: ASPINF; SymbolName_95: ASPINF; SymbolName_96: ASPINF; SymbolName_97: ASPINF; SymbolName_98: ASPINF; SymbolName_99: ASPINF; SymbolName_100: ASPINF; LibraryName: con-deutsch_2; Package: AS22-35
footprint AS22-35
part A pins: 1
part B pins: 2 1
part C pins: 3 1
part D pins: 4 1
part E pins: 5 1
part F pins: 6 1
part G pins: 7 1
part H pins: 8 1
part I pins: 9 1
part J pins: 10 1
part K pins: 11 1
part L pins: 12 1
part M pins: 13 1
part N pins: 14 1
part O pins: 15 1
part P pins: 16 1
part Q pins: 17 1
part R pins: 18 1
part S pins: 19 1
part T pins: 20 1
part U pins: 21 1
part V pins: 22 1
part W pins: 23 1
part X pins: 24 1
part Y pins: 25 1
part Z pins: 26 1
part 27 pins: 27 1
part 28 pins: 28 1
part 29 pins: 29 1
part 30 pins: 30 1
part 31 pins: 31 1
part 32 pins: 32 1
part 33 pins: 33 1
part 34 pins: 34 1
part 35 pins: 35 1
part 36 pins: 36 1
part 37 pins: 37 1
part 38 pins: 38 1
part 39 pins: 39 1
part 40 pins: 40 1
part 41 pins: 41 1
part 42 pins: 42 1
part 43 pins: 43 1
part 44 pins: 44 1
part 45 pins: 45 1
part 46 pins: 46 1
part 47 pins: 47 1
part 48 pins: 48 1
part 49 pins: 49 1
part 50 pins: 50 1
part 51 pins: 51 1
part 52 pins: 52 1
part 53 pins: 53 1
part 54 pins: 54 1
part 55 pins: 55 1
part 56 pins: 56 1
part 57 pins: 57 1
part 58 pins: 58 1
part 59 pins: 59 1
part 60 pins: 60 1
part 61 pins: 61 1
part 62 pins: 62 1
part 63 pins: 63 1
part 64 pins: 64 1
part 65 pins: 65 1
part 66 pins: 66 1
part 67 pins: 67 1
part 68 pins: 68 1
part 69 pins: 69 1
part 70 pins: 70 1
part 71 pins: 71 1
part 72 pins: 72 1
part 73 pins: 73 1
part 74 pins: 74 1
part 75 pins: 75 1
part 76 pins: 76 1
part 77 pins: 77 1
part 78 pins: 78 1
part 79 pins: 79 1
part 80 pins: 80 1
part 81 pins: 81 1
part 82 pins: 82 1
part 83 pins: 83 1
part 84 pins: 84 1
part 85 pins: 85 1
part 86 pins: 86 1
part 87 pins: 87 1
part 88 pins: 88 1
part 89 pins: 89 1
part 90 pins: 90 1
part 91 pins: 91 1
part 92 pins: 92 1
part 93 pins: 93 1
part 94 pins: 94 1
part 95 pins: 95 1
part 96 pins: 96 1
part 97 pins: 97 1
part 98 pins: 98 1
part 99 pins: 99 1
part 100 pins: 100 1

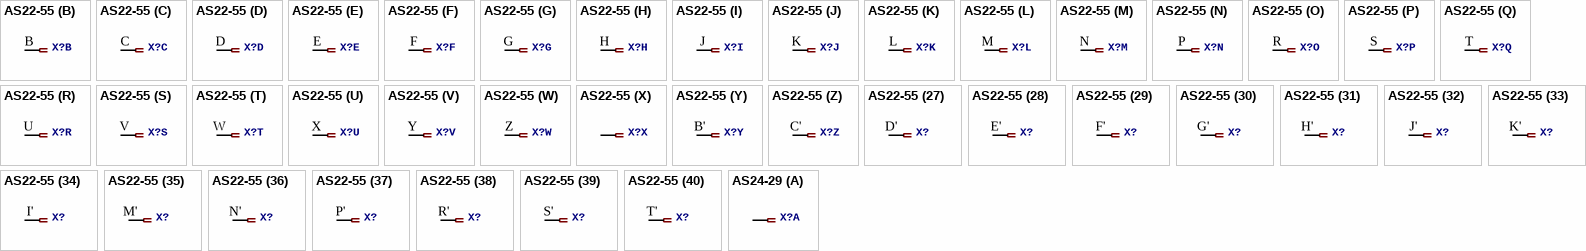
[diagram p12: symbols AS22-55 to AS24-29]

## AS22-55
designator X?, comment DEUTSCH Connector  (value not drawn)
GateName_1: /A; SymbolName_1: PINF_VAL; GateName_2: /B; SymbolName_2: ASPINF; GateName_3: /C; GateName_4: /D; GateName_5: /E; GateName_6: /F; GateName_7: /G; GateName_8: /H; GateName_9: /J; GateName_10: /K; GateName_11: /L; GateName_12: /M; GateName_13: /N; GateName_14: /P; GateName_15: /R; GateName_16: /S; GateName_17: /T; GateName_18: /U; GateName_19: /V; GateName_20: /W; GateName_21: /X; GateName_22: /Y; GateName_23: /Z; GateName_24: /A'; GateName_25: /B'; GateName_26: /C'; GateName_27: /D'; GateName_28: /E'; GateName_29: /F'; GateName_30: /G'; GateName_31: /H'; GateName_32: /J'; GateName_33: /K'; GateName_34: /I'; GateName_35: /M'; GateName_36: /N'; GateName_37: /P'; GateName_38: /R'; GateName_39: /S'; GateName_40: /T'; GateName_41: /U'; GateName_42: /V'; GateName_43: /W'; GateName_44: /X'; GateName_45: /Y'; GateName_46: /Z'; GateName_47: /Q'; GateName_48: /AA; GateName_49: /BB; GateName_50: /CC; GateName_51: /DD; GateName_52: /EE; GateName_53: /FF; GateName_54: /GG; GateName_55: /HH; DeviceSetName: AS22-55; SymbolName_3: ASPINF; SymbolName_4: ASPINF; SymbolName_5: ASPINF; SymbolName_6: ASPINF; SymbolName_7: ASPINF; SymbolName_8: ASPINF; SymbolName_9: ASPINF; SymbolName_10: ASPINF; SymbolName_11: ASPINF; SymbolName_12: ASPINF; SymbolName_13: ASPINF; SymbolName_14: ASPINF; SymbolName_15: ASPINF; SymbolName_16: ASPINF; SymbolName_17: ASPINF; SymbolName_18: ASPINF; SymbolName_19: ASPINF; SymbolName_20: ASPINF; SymbolName_21: ASPINF; SymbolName_22: ASPINF; SymbolName_23: ASPINF; SymbolName_24: PINF_VAL; SymbolName_25: ASPINF; SymbolName_26: ASPINF; SymbolName_27: ASPINF; SymbolName_28: ASPINF; SymbolName_29: ASPINF; SymbolName_30: ASPINF; SymbolName_31: ASPINF; SymbolName_32: ASPINF; SymbolName_33: ASPINF; SymbolName_34: ASPINF; SymbolName_35: ASPINF; SymbolName_36: ASPINF; SymbolName_37: ASPINF; SymbolName_38: ASPINF; SymbolName_39: ASPINF; SymbolName_40: ASPINF; SymbolName_41: ASPINF; SymbolName_42: ASPINF; SymbolName_43: ASPINF; SymbolName_44: ASPINF; SymbolName_45: ASPINF; SymbolName_46: ASPINF; SymbolName_47: ASPINF; SymbolName_48: PINF_VAL; SymbolName_49: ASPINF; SymbolName_50: ASPINF; SymbolName_51: ASPINF; SymbolName_52: ASPINF; SymbolName_53: ASPINF; SymbolName_54: ASPINF; SymbolName_55: ASPINF; LibraryName: con-deutsch_2; Package: AS22-55
footprint AS22-55
part A pins: A 1
part B pins: B 1
part C pins: C 1
part D pins: D 1
part E pins: E 1
part F pins: F 1
part G pins: G 1
part H pins: H 1
part I pins: J 1
part J pins: K 1
part K pins: L 1
part L pins: M 1
part M pins: N 1
part N pins: P 1
part O pins: R 1
part P pins: S 1
part Q pins: T 1
part R pins: U 1
part S pins: V 1
part T pins: W 1
part U pins: X 1
part V pins: Y 1
part W pins: Z 1
part X pins: A' 1
part Y pins: B' 1
part Z pins: C' 1
part 27 pins: D' 1
part 28 pins: E' 1
part 29 pins: F' 1
part 30 pins: G' 1
part 31 pins: H' 1
part 32 pins: J' 1
part 33 pins: K' 1
part 34 pins: I' 1
part 35 pins: M' 1
part 36 pins: N' 1
part 37 pins: P' 1
part 38 pins: R' 1
part 39 pins: S' 1
part 40 pins: T' 1
part 41 pins: U' 1
part 42 pins: V' 1
part 43 pins: W' 1
part 44 pins: X' 1
part 45 pins: Y' 1
part 46 pins: Z' 1
part 47 pins: Q' 1
part 48 pins: AA 1
part 49 pins: BB 1
part 50 pins: CC 1
part 51 pins: DD 1
part 52 pins: EE 1
part 53 pins: FF 1
part 54 pins: GG 1
part 55 pins: HH 1

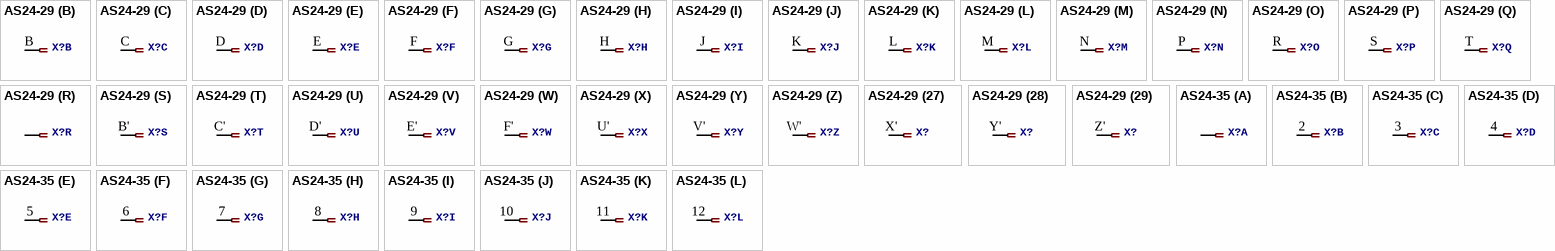
[diagram p13: symbols AS24-29 to AS24-35]

## AS24-29
designator X?, comment DEUTSCH Connector  (value not drawn)
GateName_1: /A; SymbolName_1: PINF_VAL; GateName_2: /B; SymbolName_2: ASPINF; GateName_3: /C; GateName_4: /D; GateName_5: /E; GateName_6: /F; GateName_7: /G; GateName_8: /H; GateName_9: /J; GateName_10: /K; GateName_11: /L; GateName_12: /M; GateName_13: /N; GateName_14: /P; GateName_15: /R; GateName_16: /S; GateName_17: /T; GateName_18: /A'; GateName_19: /B'; GateName_20: /C'; GateName_21: /D'; GateName_22: /E'; GateName_23: /F'; GateName_24: /U'; GateName_25: /V'; GateName_26: /W'; GateName_27: /X'; GateName_28: /Y'; GateName_29: /Z'; DeviceSetName: AS24-29; SymbolName_3: ASPINF; SymbolName_4: ASPINF; SymbolName_5: ASPINF; SymbolName_6: ASPINF; SymbolName_7: ASPINF; SymbolName_8: ASPINF; SymbolName_9: ASPINF; SymbolName_10: ASPINF; SymbolName_11: ASPINF; SymbolName_12: ASPINF; SymbolName_13: ASPINF; SymbolName_14: ASPINF; SymbolName_15: ASPINF; SymbolName_16: ASPINF; SymbolName_17: ASPINF; SymbolName_18: PINF_VAL; SymbolName_19: ASPINF; SymbolName_20: ASPINF; SymbolName_21: ASPINF; SymbolName_22: ASPINF; SymbolName_23: ASPINF; SymbolName_24: ASPINF; SymbolName_25: ASPINF; SymbolName_26: ASPINF; SymbolName_27: ASPINF; SymbolName_28: ASPINF; SymbolName_29: ASPINF; LibraryName: con-deutsch_2; Package: AS24-29
footprint AS24-29
part A pins: A 1
part B pins: B 1
part C pins: C 1
part D pins: D 1
part E pins: E 1
part F pins: F 1
part G pins: G 1
part H pins: H 1
part I pins: J 1
part J pins: K 1
part K pins: L 1
part L pins: M 1
part M pins: N 1
part N pins: P 1
part O pins: R 1
part P pins: S 1
part Q pins: T 1
part R pins: A' 1
part S pins: B' 1
part T pins: C' 1
part U pins: D' 1
part V pins: E' 1
part W pins: F' 1
part X pins: U' 1
part Y pins: V' 1
part Z pins: W' 1
part 27 pins: X' 1
part 28 pins: Y' 1
part 29 pins: Z' 1

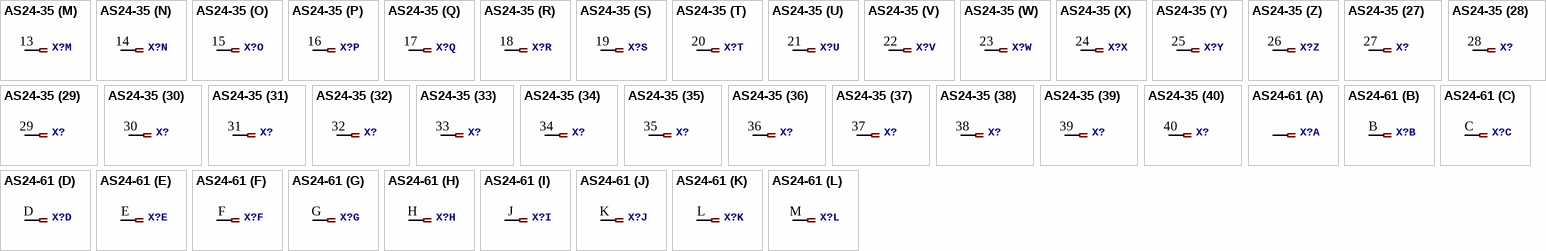
[diagram p14: symbols AS24-35 to AS24-61]